# Altium schematic symbol library Temperature Sensor.SchLib: 2 symbols
Pins are listed as number, name and electrical type; pins without a type are passive.

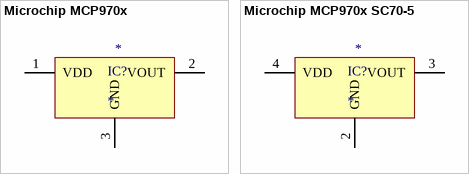
[diagram p0: symbols Microchip MCP970x to Microchip MCP970x SC70-5]

## Microchip MCP970x
designator IC?
Part Number: *
pins: 1 VDD, 2 VOUT, 3 GND

## Microchip MCP970x SC70-5
designator IC?
Part Number: *
pins: 1 NC hidden, 2 GND, 3 VOUT, 4 VDD, 5 NC hidden